# Altium footprint library SMA_Straight.PcbLib: 1 footprints
Each footprint in its own frame and in the unit in brackets; x right, y up, seen from the top. Pads: shape width x height; smd on the part's side, far side on the other; paste and mask are expansions set on the pad; w line width, h text height; cw(c..) or ccw(c..) is an arc to the next point about the centre after c.
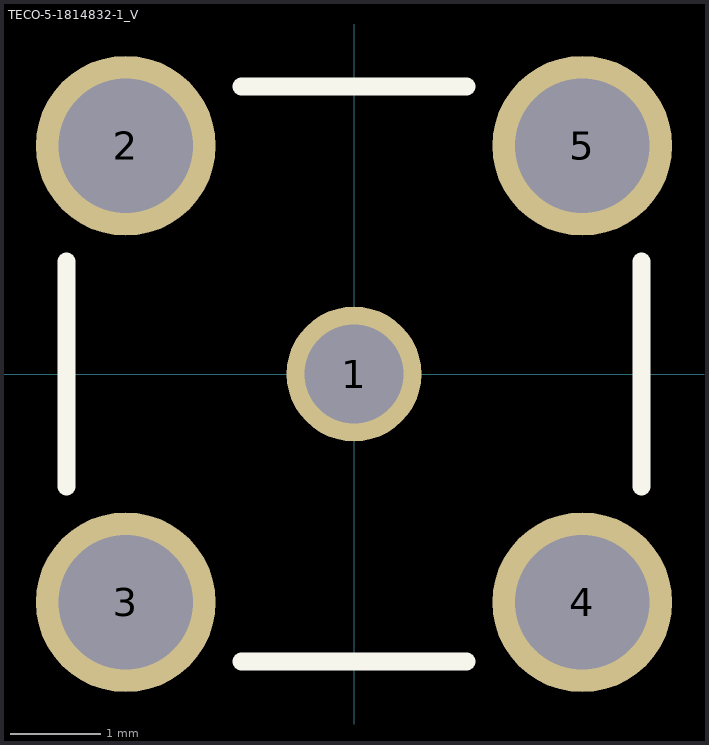
[diagram p0: the footprint, top view; thin cyan lines are the x and y axes]

## TECO-5-1814832-1_V [mm] "THD, 5-Leads, Body 6.4x6.4mm, Pitch 5.08mm"
height 9.5
pads (5):
  round 1.5 hole 1.1 mask+0: 1(0,0)
  round 2 hole 1.5 mask+0: 2(-2.54,2.54) 3(-2.54,-2.54) 4(2.54,-2.54) 5(2.54,2.54)
Top Overlay:
  lines w0.2: -3.2,-1.249 -3.2,1.249 ; -1.249,-3.2 1.249,-3.2 ; -1.249,3.2 1.249,3.2 ; 3.2,-1.249 3.2,1.249
Mechanical 15:
  lines w0.1: -0.5,0 0.5,0 ; 0,-0.5 0,0.5
3D body "c-5-1814832-1-b-3d.stp": height 9.5, standoff -4, extent -3.208,-3.208 3.192,3.192